# Altium schematic symbol library kmilo17pet-Maxim_Sensors.SchLib: 1172 symbols (part 57 of 61)
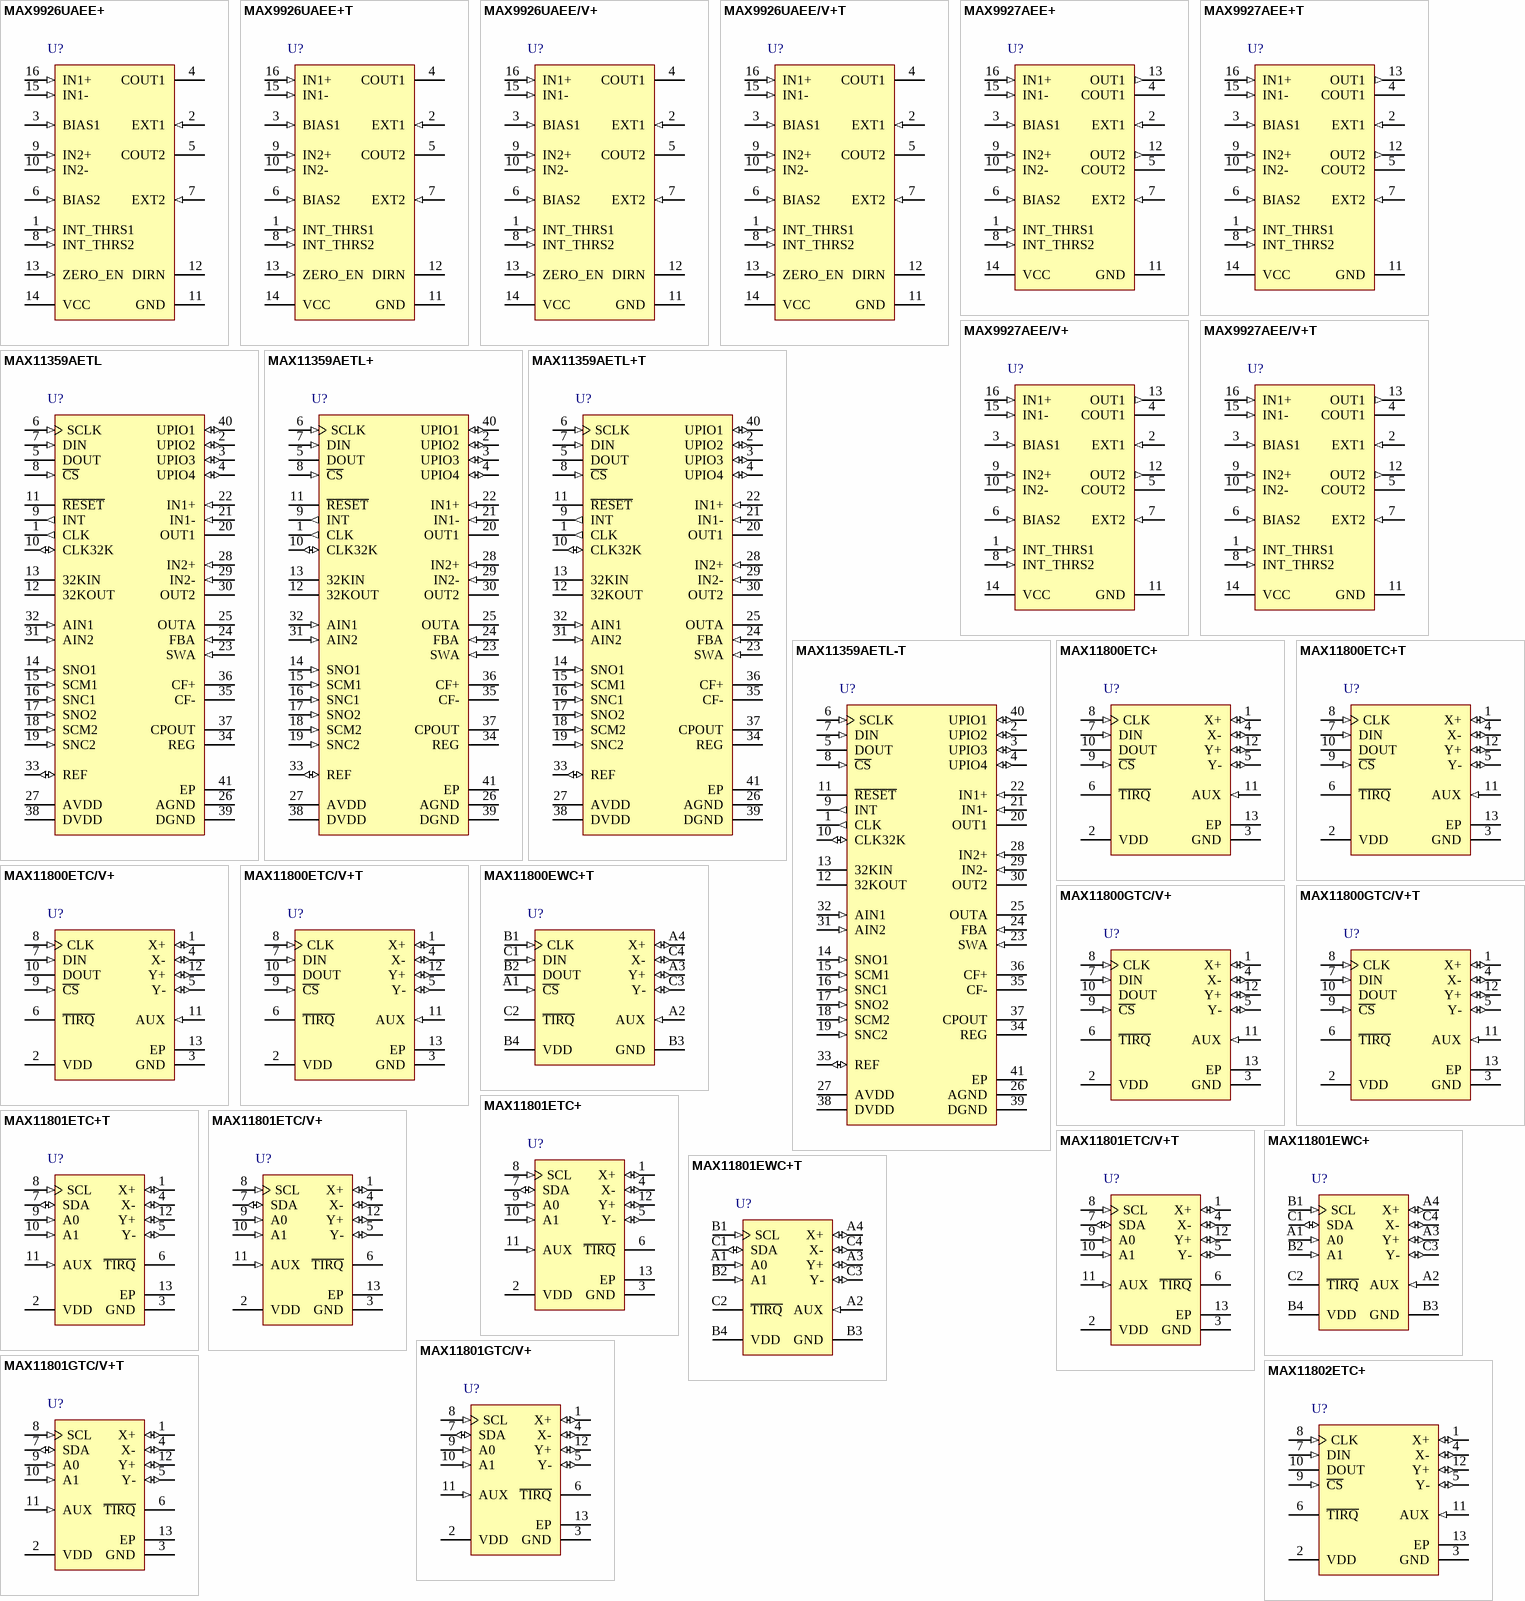
[diagram p89: symbols MAX9926UAEE+ to MAX11802ETC+]

## MAX11359AETL+T
designator U?
16-Bit Data-Acquisition System with ADC, DACs, UPIOs, RTC, Voltage Monitors, and Temp Sensor, with 10-bit DAC, 16-bit ADC, -40 to 85 degC, 40-Pin QFN (T4066+5), Pb-Free, Tape and Reel; Generic Part Number: MAX11359A; PartNumber: MAX11359AETL+T; Calibration Method: External microcontroller; Interface: SPI; Output Type: Digital; DatasheetVersion: Rev. 1; PackageVersion: Rev. M, 03/2012; PackageReference: T4066+5; PackageDescription: 40-Pin Thin Quad Flatpack, No Leads, Body 6 x 6 mm, Pitch 0.5 mm; Supplier 1: Digi-Key; Supplier Part Number 1: MAX11359AETL+T-ND; Supplier 2: Mouser; Supplier Part Number 2: 700-MAX11359AETL+T; DACs/ADCs: 10-bit DAC, 16-bit ADC; Features: 2 Op Amps, Analog Switches ,Charge Pump ,RTC ,Temp. Sensor ,UPIOs ,Voltage Reference; Packing: Tape and Reel; Mounting Technology: Surface Mount; Code_JEDEC: MO-220; ComponentLink1Description: Manufacturer URL; ComponentLink1URL: http://www.maximintegrated.com/; ComponentLink2Description: Datasheet; ComponentLink2URL: http://datasheets.maximintegrated.com/en/ds/MAX11359A.pdf; ComponentLink3Description: Package Specification; ComponentLink3URL: http://pdfserv.maximintegrated.com/package_dwgs/21-0141.PDF
footprint MAXM-T4066+5_N (QFN, 40-Leads, Body 6x6mm, Pitch 0.5mm, Thermal Pad 4.1x4.1mm, IPC Medium Density)
footprint MAXM-T4066+5_L (QFN, 40-Leads, Body 6x6mm, Pitch 0.5mm, Thermal Pad 4.1x4.1mm, IPC High Density)
footprint MAXM-T4066+5_M (QFN, 40-Leads, Body 6x6mm, Pitch 0.5mm, Thermal Pad 4.1x4.1mm, IPC Low Density)
pins: 1 CLK (out) "Clock Output. Default is 2.457MHz output clock for uC.", 2 UPIO2 (io) "User-Programmable Input/Output 2. See the UPIO2_CTRL Register section for functionality.", 3 UPIO3 (io) "User-Programmable Input/Output 3. See the UPIO3_CTRL Register section for functionality.", 4 UPIO4 (io) "User-Programmable Input/Output 4. See the UPIO4_CTRL Register section for functionality.", 5 DOUT (hiz) "Serial-Data Output. Data is clocked out on SCLK’s falling edge. High impedance when C\S\ is high. When UPIO/SPI passthrough mode is enabled, DOUT mirrors the state of UPIO1.", 6 SCLK (in) "Serial-Clock Input. Clocks data in and out of the serial interface.", 7 DIN (in) "Serial-Data Input. Data is clocked in on SCLK’s rising edge.", 8 ~{CS} (in) "Active-Low Chip-Select Input. Data is not clocked into DIN unless C\S\ is low. When C\S\ is high, DOUT is high impedance. High impedance when C\S\ is high. When UPIO/SPI passthrough mode is enabled, DOUT mirrors the state of (See Datasheet)", 9 INT (out) "Programmable Active-High/Low Interrupt Output. ADC, UPIO wake-up, alarm, and voltage-monitor events.", 10 CLK32K (io) "32kHz Clock Input/Output. Outputs 32kHz clock for uC. Can be programmed as an input by enabling the IO32E bit to accept an external 32kHz input clock. The RTC, PWM, and watchdog timer always use the internal 32kHz clock (See Datasheet)", 11 ~{RESET} (oc) "Active-Low Open-Drain R\e\s\e\t\ Output. Remains low while DVDD is below the 1.8V voltage threshold, and stays low for a timeout period (tDSLP) after DVDD rises above the 1.8V threshold. R\E\S\E\T\ also pulses low when the (See Datasheet)", 12 32KOUT "32kHz Crystal Output. Connect external 32kHz watch crystal between 32KIN and 32KOUT.", 13 32KIN "32kHz Crystal Input. Connect external 32kHz watch crystal between 32KIN and 32KOUT or drive with CMOS level as shown in Figure 25.", 14 SNO1 (in) "Analog Switch 1 Normally Open Terminal. Analog input to mux.", 15 SCM1 (in) "Analog Switch 1 Common Terminal. Analog input to mux.", 16 SNC1 (in) "Analog Switch 1 Normally Closed Terminal. Analog input to mux (open on POR).", 17 SNO2 (in) "Analog Switch 2 Normally Open Terminal. Analog input to mux.", 18 SCM2 (in) "Analog Switch 2 Common Terminal. Analog input to mux (open on POR).", 19 SNC2 (in) "Analog Switch 2 Normally Closed Terminal. Analog input to mux.", 20 OUT1 (hiz) "Amplifier 1 Output. Analog input to mux.", 21 IN1- (in) "Amplifier 1 Inverting Input. Analog input to mux.", 22 IN1+ (in) "Amplifier 1 Noninverting Input", 23 SWA (in) "DACA SPST Shunt Switch Input. Connects to OUTA through a SPST switch.", 24 FBA (in) "DACA Force-Sense Feedback Input. Analog input to mux.", 25 OUTA (hiz) "DACA Force-Sense Output. Analog input to mux.", 26 AGND (power) "Analog Ground", 27 AVDD (power) "Analog Supply Voltage. Also ADC reference voltage during AVDD measurement. Bypass to AGND with 10uF and 0.1uF capacitors in parallel as close to the pin as possible.", 28 IN2+ (in) "Amplifier 2 Noninverting Input", 29 IN2- (in) "Amplifier 2 Inverting Input. Analog input to mux.", 30 OUT2 (hiz) "Amplifier 2 Output. Analog input to mux.", 31 AIN2 (in) "Analog Input 2. Analog input to mux. Inputs have internal programmable current source for external temperature measurement.", 32 AIN1 (in) "Analog Input 1. Analog input to mux. Inputs have internal programmable current source for external temperature measurement.", 33 REF (io) "Reference Input/Output. Output of the reference buffer amplifier or external reference input. Disabled at power-up to allow external reference. Reference voltage for ADC and DAC.", 34 REG (power) "Linear Voltage-Regulator Output. Charge-pump-doubler input voltage. Bypass REG with a 10uF capacitor to DGND for charge-pump regulation.", 35 CF- "Charge-Pump Flying Capacitor Terminal. Connect an external 10uF (typ) capacitor between CF+ and CF- .", 36 CF+ "Charge-Pump Flying Capacitor Terminal. Connect an external 10uF (typ) capacitor between CF+ and CF- .", 37 CPOUT (power) "Charge-Pump Output. Connect an external 10uF (typ) reservoir capacitor between CPOUT and DGND . There is a low threshold diode between DVDD and CPOUT. When the charge pump is disabled , CPOUT is pulled up within 300mV (typ) (See Datasheet)", 38 DVDD (power) "Digital Supply Voltage. Bypass to DGND with 10uF and 0.1uF capacitors in parallel as close to the pin as possible.", 39 DGND (power) "Digital Ground. Also ground for cascaded linear voltage regulator and charge-pump doubler.", 40 UPIO1 (io) "User-Programmable Input/Output 1. See the UPIO1_CTRL Register for functionality.", 41 EP (power) "Exposed  Pad . Leave unconnected  or  connect to AGND ."

## MAX11359AETL-T
designator U?
16-Bit Data-Acquisition System with ADC, DACs, UPIOs, RTC, Voltage Monitors, and Temp Sensor, with 10-bit DAC, 16-bit ADC, -40 to 85 degC, 40-Pin QFN (T4066-5), Tape and Reel; Generic Part Number: MAX11359A; PartNumber: MAX11359AETL-T; Calibration Method: External microcontroller; Interface: SPI; Output Type: Digital; DatasheetVersion: Rev. 1; PackageVersion: Rev. M, 03/2012; PackageReference: T4066-5; PackageDescription: 40-Pin Thin Quad Flatpack, No Leads, Body 6 x 6 mm, Pitch 0.5 mm; Supplier 1: Mouser; Supplier Part Number 1: N/A; DACs/ADCs: 10-bit DAC, 16-bit ADC; Features: 2 Op Amps, Analog Switches ,Charge Pump ,RTC ,Temp. Sensor ,UPIOs ,Voltage Reference; Packing: Tape and Reel; Mounting Technology: Surface Mount; Code_JEDEC: MO-220; ComponentLink1Description: Manufacturer URL; ComponentLink1URL: http://www.maximintegrated.com/; ComponentLink2Description: Datasheet; ComponentLink2URL: http://datasheets.maximintegrated.com/en/ds/MAX11359A.pdf; ComponentLink3Description: Package Specification; ComponentLink3URL: http://pdfserv.maximintegrated.com/package_dwgs/21-0141.PDF
footprint MAXM-T4066-5_N (QFN, 40-Leads, Body 6x6mm, Pitch 0.5mm, Thermal Pad 4.1x4.1 mm, IPC Medium Density)
footprint MAXM-T4066-5_L (QFN, 40-Leads, Body 6x6mm, Pitch 0.5mm, Thermal Pad 4.1x4.1 mm, IPC High Density)
footprint MAXM-T4066-5_M (QFN, 40-Leads, Body 6x6mm, Pitch 0.5mm, Thermal Pad 4.1x4.1 mm, IPC Low Density)
pins: 1 CLK (out) "Clock Output. Default is 2.457MHz output clock for uC.", 2 UPIO2 (io) "User-Programmable Input/Output 2. See the UPIO2_CTRL Register section for functionality.", 3 UPIO3 (io) "User-Programmable Input/Output 3. See the UPIO3_CTRL Register section for functionality.", 4 UPIO4 (io) "User-Programmable Input/Output 4. See the UPIO4_CTRL Register section for functionality.", 5 DOUT (hiz) "Serial-Data Output. Data is clocked out on SCLK’s falling edge. High impedance when C\S\ is high. When UPIO/SPI passthrough mode is enabled, DOUT mirrors the state of UPIO1.", 6 SCLK (in) "Serial-Clock Input. Clocks data in and out of the serial interface.", 7 DIN (in) "Serial-Data Input. Data is clocked in on SCLK’s rising edge.", 8 ~{CS} (in) "Active-Low Chip-Select Input. Data is not clocked into DIN unless C\S\ is low. When C\S\ is high, DOUT is high impedance. High impedance when C\S\ is high. When UPIO/SPI passthrough mode is enabled, DOUT mirrors the state of (See Datasheet)", 9 INT (out) "Programmable Active-High/Low Interrupt Output. ADC, UPIO wake-up, alarm, and voltage-monitor events.", 10 CLK32K (io) "32kHz Clock Input/Output. Outputs 32kHz clock for uC. Can be programmed as an input by enabling the IO32E bit to accept an external 32kHz input clock. The RTC, PWM, and watchdog timer always use the internal 32kHz clock (See Datasheet)", 11 ~{RESET} (oc) "Active-Low Open-Drain R\e\s\e\t\ Output. Remains low while DVDD is below the 1.8V voltage threshold, and stays low for a timeout period (tDSLP) after DVDD rises above the 1.8V threshold. R\E\S\E\T\ also pulses low when the (See Datasheet)", 12 32KOUT "32kHz Crystal Output. Connect external 32kHz watch crystal between 32KIN and 32KOUT.", 13 32KIN "32kHz Crystal Input. Connect external 32kHz watch crystal between 32KIN and 32KOUT or drive with CMOS level as shown in Figure 25.", 14 SNO1 (in) "Analog Switch 1 Normally Open Terminal. Analog input to mux.", 15 SCM1 (in) "Analog Switch 1 Common Terminal. Analog input to mux.", 16 SNC1 (in) "Analog Switch 1 Normally Closed Terminal. Analog input to mux (open on POR).", 17 SNO2 (in) "Analog Switch 2 Normally Open Terminal. Analog input to mux.", 18 SCM2 (in) "Analog Switch 2 Common Terminal. Analog input to mux (open on POR).", 19 SNC2 (in) "Analog Switch 2 Normally Closed Terminal. Analog input to mux.", 20 OUT1 (hiz) "Amplifier 1 Output. Analog input to mux.", 21 IN1- (in) "Amplifier 1 Inverting Input. Analog input to mux.", 22 IN1+ (in) "Amplifier 1 Noninverting Input", 23 SWA (in) "DACA SPST Shunt Switch Input. Connects to OUTA through a SPST switch.", 24 FBA (in) "DACA Force-Sense Feedback Input. Analog input to mux.", 25 OUTA (hiz) "DACA Force-Sense Output. Analog input to mux.", 26 AGND (power) "Analog Ground", 27 AVDD (power) "Analog Supply Voltage. Also ADC reference voltage during AVDD measurement. Bypass to AGND with 10uF and 0.1uF capacitors in parallel as close to the pin as possible.", 28 IN2+ (in) "Amplifier 2 Noninverting Input", 29 IN2- (in) "Amplifier 2 Inverting Input. Analog input to mux.", 30 OUT2 (hiz) "Amplifier 2 Output. Analog input to mux.", 31 AIN2 (in) "Analog Input 2. Analog input to mux. Inputs have internal programmable current source for external temperature measurement.", 32 AIN1 (in) "Analog Input 1. Analog input to mux. Inputs have internal programmable current source for external temperature measurement.", 33 REF (io) "Reference Input/Output. Output of the reference buffer amplifier or external reference input. Disabled at power-up to allow external reference. Reference voltage for ADC and DAC.", 34 REG (power) "Linear Voltage-Regulator Output. Charge-pump-doubler input voltage. Bypass REG with a 10uF capacitor to DGND for charge-pump regulation.", 35 CF- "Charge-Pump Flying Capacitor Terminal. Connect an external 10uF (typ) capacitor between CF+ and CF- .", 36 CF+ "Charge-Pump Flying Capacitor Terminal. Connect an external 10uF (typ) capacitor between CF+ and CF- .", 37 CPOUT (power) "Charge-Pump Output. Connect an external 10uF (typ) reservoir capacitor between CPOUT and DGND . There is a low threshold diode between DVDD and CPOUT. When the charge pump is disabled , CPOUT is pulled up within 300mV (typ) (See Datasheet)", 38 DVDD (power) "Digital Supply Voltage. Bypass to DGND with 10uF and 0.1uF capacitors in parallel as close to the pin as possible.", 39 DGND (power) "Digital Ground. Also ground for cascaded linear voltage regulator and charge-pump doubler.", 40 UPIO1 (io) "User-Programmable Input/Output 1. See the UPIO1_CTRL Register for functionality.", 41 EP (power) "Exposed  Pad . Leave unconnected  or  connect to AGND ."

## MAX11800ETC+
designator U?
4 Channels, Ultra-Small, Low-Power, 4-Wire Touch-Sensor Controller with SPI Interface, -40 to 85 degC, 12-Pin QFN (T1244+4), Pb-Free; Generic Part Number: MAX11800; PartNumber: MAX11800ETC+; Channels: 4; Controller Type: Resistive; EV Kit: Yes; DatasheetVersion: Rev. 3; PackageVersion: Rev. L, 04/2012; PackageReference: T1244+4; PackageDescription: 12-Pin Thin Quad Flatpack, No Leads, Body 4 x 4 mm, Pitch 0.8 mm; Supplier 1: Digi-Key; Supplier Part Number 1: MAX11800ETC+-ND; Supplier 2: Mouser; Supplier Part Number 2: 700-MAX11800ETC+; Interface: SPI; Mounting Technology: Surface Mount; Code_JEDEC: MO-220; ComponentLink1Description: Manufacturer URL; ComponentLink1URL: http://www.maximintegrated.com/; ComponentLink2Description: Datasheet; ComponentLink2URL: http://datasheets.maximintegrated.com/en/ds/MAX11800-MAX11803.pdf; ComponentLink3Description: Package Specification; ComponentLink3URL: http://pdfserv.maximintegrated.com/package_dwgs/21-0139.PDF
footprint MAXM-T1244+4_N (QFN, 12-Leads, Body 4x4mm, Pitch 0.8mm, Thermal Pad 2.1x2.1mm, IPC Medium Density)
footprint MAXM-T1244+4_L (QFN, 12-Leads, Body 4x4mm, Pitch 0.8mm, Thermal Pad 2.1x2.1mm, IPC High Density)
footprint MAXM-T1244+4_M (QFN, 12-Leads, Body 4x4mm, Pitch 0.8mm, Thermal Pad 2.1x2.1mm, IPC Low Density)
pins: 1 X+ (io) "X+ Channel Input/Output", 2 VDD (power) "Power Supply. Bypass VDD to GND with a 1uF capacitor.", 3 GND (power) "Ground", 4 X- (io) "X- Channel Input/Output", 5 Y- (io) "Y- Channel Input/Output", 6 ~{TIRQ} (hiz) "Active-Low Touch Interrupt Output", 7 DIN (in) "SPI Serial Data Input", 8 CLK (in) "SPI Serial Data Clock Input", 9 ~{CS} (in) "SPI Chip-Select Input", 10 DOUT (hiz) "SPI Data Output", 11 AUX (in) "Auxiliary Input", 12 Y+ (io) "Y+ Channel Input/Output", 13 EP (power) "Exposed Pad (TQFN only). Connected to ground."

## MAX11800ETC+T
designator U?
4 Channels, Ultra-Small, Low-Power, 4-Wire Touch-Sensor Controller with SPI Interface, -40 to 85 degC, 12-Pin QFN (T1244+4), Pb-Free, Tape and Reel; Generic Part Number: MAX11800; PartNumber: MAX11800ETC+T; Channels: 4; Controller Type: Resistive; EV Kit: Yes; DatasheetVersion: Rev. 3; PackageVersion: Rev. L, 04/2012; PackageReference: T1244+4; PackageDescription: 12-Pin Thin Quad Flatpack, No Leads, Body 4 x 4 mm, Pitch 0.8 mm; Supplier 1: Digi-Key; Supplier Part Number 1: MAX11800ETC+T-ND; Supplier 2: Mouser; Supplier Part Number 2: 700-MAX11800ETC+T; Interface: SPI; Packing: Tape and Reel; Mounting Technology: Surface Mount; Code_JEDEC: MO-220; ComponentLink1Description: Manufacturer URL; ComponentLink1URL: http://www.maximintegrated.com/; ComponentLink2Description: Datasheet; ComponentLink2URL: http://datasheets.maximintegrated.com/en/ds/MAX11800-MAX11803.pdf; ComponentLink3Description: Package Specification; ComponentLink3URL: http://pdfserv.maximintegrated.com/package_dwgs/21-0139.PDF
footprint MAXM-T1244+4_N (QFN, 12-Leads, Body 4x4mm, Pitch 0.8mm, Thermal Pad 2.1x2.1mm, IPC Medium Density)
footprint MAXM-T1244+4_L (QFN, 12-Leads, Body 4x4mm, Pitch 0.8mm, Thermal Pad 2.1x2.1mm, IPC High Density)
footprint MAXM-T1244+4_M (QFN, 12-Leads, Body 4x4mm, Pitch 0.8mm, Thermal Pad 2.1x2.1mm, IPC Low Density)
pins: 1 X+ (io) "X+ Channel Input/Output", 2 VDD (power) "Power Supply. Bypass VDD to GND with a 1uF capacitor.", 3 GND (power) "Ground", 4 X- (io) "X- Channel Input/Output", 5 Y- (io) "Y- Channel Input/Output", 6 ~{TIRQ} (hiz) "Active-Low Touch Interrupt Output", 7 DIN (in) "SPI Serial Data Input", 8 CLK (in) "SPI Serial Data Clock Input", 9 ~{CS} (in) "SPI Chip-Select Input", 10 DOUT (hiz) "SPI Data Output", 11 AUX (in) "Auxiliary Input", 12 Y+ (io) "Y+ Channel Input/Output", 13 EP (power) "Exposed Pad (TQFN only). Connected to ground."

## MAX11800ETC/V+
designator U?
4 Channels, Ultra-Small, Low-Power, 4-Wire Touch-Sensor Controller with SPI Interface, -40 to 85 degC, 12-Pin QFN (T1244+4), Pb-Free; Generic Part Number: MAX11800; PartNumber: MAX11800ETC/V+; Channels: 4; Controller Type: Resistive; EV Kit: Yes; DatasheetVersion: Rev. 3; PackageVersion: Rev. L, 04/2012; PackageReference: T1244+4; PackageDescription: 12-Pin Thin Quad Flatpack, No Leads, Body 4 x 4 mm, Pitch 0.8 mm; Supplier 1: Digi-Key; Supplier Part Number 1: MAX11800ETC/V+-ND; Supplier 2: Mouser; Supplier Part Number 2: 700-MAX11800ETC/V+; Interface: SPI; Mounting Technology: Surface Mount; Code_JEDEC: MO-220; ComponentLink1Description: Manufacturer URL; ComponentLink1URL: http://www.maximintegrated.com/; ComponentLink2Description: Datasheet; ComponentLink2URL: http://datasheets.maximintegrated.com/en/ds/MAX11800-MAX11803.pdf; ComponentLink3Description: Package Specification; ComponentLink3URL: http://pdfserv.maximintegrated.com/package_dwgs/21-0139.PDF
footprint MAXM-T1244+4_N (QFN, 12-Leads, Body 4x4mm, Pitch 0.8mm, Thermal Pad 2.1x2.1mm, IPC Medium Density)
footprint MAXM-T1244+4_L (QFN, 12-Leads, Body 4x4mm, Pitch 0.8mm, Thermal Pad 2.1x2.1mm, IPC High Density)
footprint MAXM-T1244+4_M (QFN, 12-Leads, Body 4x4mm, Pitch 0.8mm, Thermal Pad 2.1x2.1mm, IPC Low Density)
pins: 1 X+ (io) "X+ Channel Input/Output", 2 VDD (power) "Power Supply. Bypass VDD to GND with a 1uF capacitor.", 3 GND (power) "Ground", 4 X- (io) "X- Channel Input/Output", 5 Y- (io) "Y- Channel Input/Output", 6 ~{TIRQ} (hiz) "Active-Low Touch Interrupt Output", 7 DIN (in) "SPI Serial Data Input", 8 CLK (in) "SPI Serial Data Clock Input", 9 ~{CS} (in) "SPI Chip-Select Input", 10 DOUT (hiz) "SPI Data Output", 11 AUX (in) "Auxiliary Input", 12 Y+ (io) "Y+ Channel Input/Output", 13 EP (power) "Exposed Pad (TQFN only). Connected to ground."

## MAX11800ETC/V+T
designator U?
4 Channels, Ultra-Small, Low-Power, 4-Wire Touch-Sensor Controller with SPI Interface, -40 to 85 degC, 12-Pin QFN (T1244+4), Pb-Free, Tape and Reel; Generic Part Number: MAX11800; PartNumber: MAX11800ETC/V+T; Channels: 4; Controller Type: Resistive; EV Kit: Yes; DatasheetVersion: Rev. 3; PackageVersion: Rev. L, 04/2012; PackageReference: T1244+4; PackageDescription: 12-Pin Thin Quad Flatpack, No Leads, Body 4 x 4 mm, Pitch 0.8 mm; Supplier 1: Digi-Key; Supplier Part Number 1: MAX11800ETC/V+T-ND; Supplier 2: Mouser; Supplier Part Number 2: 700-MAX11800ETC/V+T; Interface: SPI; Packing: Tape and Reel; Mounting Technology: Surface Mount; Code_JEDEC: MO-220; ComponentLink1Description: Manufacturer URL; ComponentLink1URL: http://www.maximintegrated.com/; ComponentLink2Description: Datasheet; ComponentLink2URL: http://datasheets.maximintegrated.com/en/ds/MAX11800-MAX11803.pdf; ComponentLink3Description: Package Specification; ComponentLink3URL: http://pdfserv.maximintegrated.com/package_dwgs/21-0139.PDF
footprint MAXM-T1244+4_N (QFN, 12-Leads, Body 4x4mm, Pitch 0.8mm, Thermal Pad 2.1x2.1mm, IPC Medium Density)
footprint MAXM-T1244+4_L (QFN, 12-Leads, Body 4x4mm, Pitch 0.8mm, Thermal Pad 2.1x2.1mm, IPC High Density)
footprint MAXM-T1244+4_M (QFN, 12-Leads, Body 4x4mm, Pitch 0.8mm, Thermal Pad 2.1x2.1mm, IPC Low Density)
pins: 1 X+ (io) "X+ Channel Input/Output", 2 VDD (power) "Power Supply. Bypass VDD to GND with a 1uF capacitor.", 3 GND (power) "Ground", 4 X- (io) "X- Channel Input/Output", 5 Y- (io) "Y- Channel Input/Output", 6 ~{TIRQ} (hiz) "Active-Low Touch Interrupt Output", 7 DIN (in) "SPI Serial Data Input", 8 CLK (in) "SPI Serial Data Clock Input", 9 ~{CS} (in) "SPI Chip-Select Input", 10 DOUT (hiz) "SPI Data Output", 11 AUX (in) "Auxiliary Input", 12 Y+ (io) "Y+ Channel Input/Output", 13 EP (power) "Exposed Pad (TQFN only). Connected to ground."

## MAX11800EWC+T
designator U?
4 Channels, Ultra-Small, Low-Power, 4-Wire Touch-Sensor Controller with SPI Interface, -40 to 85 degC, 12-Pin BGA (W121A2+1), Pb-Free, Tape and Reel; Generic Part Number: MAX11800; PartNumber: MAX11800EWC+T; Channels: 4; Controller Type: Resistive; EV Kit: Yes; DatasheetVersion: Rev. 3; PackageVersion: Rev. G, 02/2010; PackageReference: W121A2+1; PackageDescription: 12-Pin Wafer-Level Package, Full Array, Body 1.555 x 2.135 mm, Pitch 0.5 mm; Supplier 1: Digi-Key; Supplier Part Number 1: MAX11800EWC+TTR-ND; Supplier 2: Digi-Key; Supplier Part Number 2: MAX11800EWC+TCT-ND; Supplier 3: Digi-Key; Supplier Part Number 3: MAX11800EWC+TDKR-ND; Supplier 4: Mouser; Supplier Part Number 4: 700-MAX11800EWC+T; Interface: SPI; Packing: Tape and Reel; Mounting Technology: Surface Mount; ComponentLink1Description: Manufacturer URL; ComponentLink1URL: http://www.maximintegrated.com/; ComponentLink2Description: Datasheet; ComponentLink2URL: http://datasheets.maximintegrated.com/en/ds/MAX11800-MAX11803.pdf; ComponentLink3Description: Package Specification; ComponentLink3URL: http://pdfserv.maximintegrated.com/package_dwgs/21-0009.PDF
footprint MAXM-W121A2+1 (BGA, 12-Balls, Body 2.135x1.555mm, Pitch 0.5mm)
pins: A1 ~{CS} (in) "SPI Chip-Select Input", A2 AUX (in) "Auxiliary Input", A3 Y+ (io) "Y+ Channel Input/Output", A4 X+ (io) "X+ Channel Input/Output", B1 CLK (in) "SPI Serial Data Clock Input", B2 DOUT (hiz) "SPI Data Output", B3 GND (power) "Ground", B4 VDD (power) "Power Supply. Bypass VDD to GND with a 1uF capacitor.", C1 DIN (in) "SPI Serial Data Input", C2 ~{TIRQ} (hiz) "Active-Low Touch Interrupt Output", C3 Y- (io) "Y- Channel Input/Output", C4 X- (io) "X- Channel Input/Output"

## MAX11800GTC/V+
designator U?
4 Channels, Ultra-Small, Low-Power, 4-Wire Touch-Sensor Controller with SPI Interface, -40 to 105 degC, 12-Pin QFN (T1244+4), Pb-Free; Generic Part Number: MAX11800; PartNumber: MAX11800GTC/V+; Channels: 4; Controller Type: Resistive; EV Kit: Yes; DatasheetVersion: Rev. 3; PackageVersion: Rev. L, 04/2012; PackageReference: T1244+4; PackageDescription: 12-Pin Thin Quad Flatpack, No Leads, Body 4 x 4 mm, Pitch 0.8 mm; Supplier 1: Digi-Key; Supplier Part Number 1: MAX11800GTC/V+-ND; Supplier 2: Mouser; Supplier Part Number 2: 700-MAX11800GTC/V+; Interface: SPI; Mounting Technology: Surface Mount; Code_JEDEC: MO-220; ComponentLink1Description: Manufacturer URL; ComponentLink1URL: http://www.maximintegrated.com/; ComponentLink2Description: Datasheet; ComponentLink2URL: http://datasheets.maximintegrated.com/en/ds/MAX11800-MAX11803.pdf; ComponentLink3Description: Package Specification; ComponentLink3URL: http://pdfserv.maximintegrated.com/package_dwgs/21-0139.PDF
footprint MAXM-T1244+4_N (QFN, 12-Leads, Body 4x4mm, Pitch 0.8mm, Thermal Pad 2.1x2.1mm, IPC Medium Density)
footprint MAXM-T1244+4_L (QFN, 12-Leads, Body 4x4mm, Pitch 0.8mm, Thermal Pad 2.1x2.1mm, IPC High Density)
footprint MAXM-T1244+4_M (QFN, 12-Leads, Body 4x4mm, Pitch 0.8mm, Thermal Pad 2.1x2.1mm, IPC Low Density)
pins: 1 X+ (io) "X+ Channel Input/Output", 2 VDD (power) "Power Supply. Bypass VDD to GND with a 1uF capacitor.", 3 GND (power) "Ground", 4 X- (io) "X- Channel Input/Output", 5 Y- (io) "Y- Channel Input/Output", 6 ~{TIRQ} (hiz) "Active-Low Touch Interrupt Output", 7 DIN (in) "SPI Serial Data Input", 8 CLK (in) "SPI Serial Data Clock Input", 9 ~{CS} (in) "SPI Chip-Select Input", 10 DOUT (hiz) "SPI Data Output", 11 AUX (in) "Auxiliary Input", 12 Y+ (io) "Y+ Channel Input/Output", 13 EP (power) "Exposed Pad (TQFN only). Connected to ground."

## MAX11800GTC/V+T
designator U?
4 Channels, Ultra-Small, Low-Power, 4-Wire Touch-Sensor Controller with SPI Interface, -40 to 105 degC, 12-Pin QFN (T1244+4), Pb-Free, Tape and Reel; Generic Part Number: MAX11800; PartNumber: MAX11800GTC/V+T; Channels: 4; Controller Type: Resistive; EV Kit: Yes; DatasheetVersion: Rev. 3; PackageVersion: Rev. L, 04/2012; PackageReference: T1244+4; PackageDescription: 12-Pin Thin Quad Flatpack, No Leads, Body 4 x 4 mm, Pitch 0.8 mm; Supplier 1: Digi-Key; Supplier Part Number 1: MAX11800GTC/V+T-ND; Supplier 2: Mouser; Supplier Part Number 2: 700-MAX11800GTC/V+T; Interface: SPI; Packing: Tape and Reel; Mounting Technology: Surface Mount; Code_JEDEC: MO-220; ComponentLink1Description: Manufacturer URL; ComponentLink1URL: http://www.maximintegrated.com/; ComponentLink2Description: Datasheet; ComponentLink2URL: http://datasheets.maximintegrated.com/en/ds/MAX11800-MAX11803.pdf; ComponentLink3Description: Package Specification; ComponentLink3URL: http://pdfserv.maximintegrated.com/package_dwgs/21-0139.PDF
footprint MAXM-T1244+4_N (QFN, 12-Leads, Body 4x4mm, Pitch 0.8mm, Thermal Pad 2.1x2.1mm, IPC Medium Density)
footprint MAXM-T1244+4_L (QFN, 12-Leads, Body 4x4mm, Pitch 0.8mm, Thermal Pad 2.1x2.1mm, IPC High Density)
footprint MAXM-T1244+4_M (QFN, 12-Leads, Body 4x4mm, Pitch 0.8mm, Thermal Pad 2.1x2.1mm, IPC Low Density)
pins: 1 X+ (io) "X+ Channel Input/Output", 2 VDD (power) "Power Supply. Bypass VDD to GND with a 1uF capacitor.", 3 GND (power) "Ground", 4 X- (io) "X- Channel Input/Output", 5 Y- (io) "Y- Channel Input/Output", 6 ~{TIRQ} (hiz) "Active-Low Touch Interrupt Output", 7 DIN (in) "SPI Serial Data Input", 8 CLK (in) "SPI Serial Data Clock Input", 9 ~{CS} (in) "SPI Chip-Select Input", 10 DOUT (hiz) "SPI Data Output", 11 AUX (in) "Auxiliary Input", 12 Y+ (io) "Y+ Channel Input/Output", 13 EP (power) "Exposed Pad (TQFN only). Connected to ground."

## MAX11801ETC+
designator U?
4 Channels, Ultra-Small, Low-Power, 4-Wire Touch-Sensor Controller with I2C Interface, -40 to 85 degC, 12-Pin QFN (T1244+4), Pb-Free; Generic Part Number: MAX11801; PartNumber: MAX11801ETC+; Channels: 4; Controller Type: Resistive; EV Kit: Yes; DatasheetVersion: Rev. 3; PackageVersion: Rev. L, 04/2012; PackageReference: T1244+4; PackageDescription: 12-Pin Thin Quad Flatpack, No Leads, Body 4 x 4 mm, Pitch 0.8 mm; Supplier 1: Digi-Key; Supplier Part Number 1: MAX11801ETC+-ND; Supplier 2: Farnell; Supplier Part Number 2: 2071376; Supplier 3: Mouser; Supplier Part Number 3: 700-MAX11801ETC+; Interface: I2C; Mounting Technology: Surface Mount; Code_JEDEC: MO-220; ComponentLink1Description: Manufacturer URL; ComponentLink1URL: http://www.maximintegrated.com/; ComponentLink2Description: Datasheet; ComponentLink2URL: http://datasheets.maximintegrated.com/en/ds/MAX11800-MAX11803.pdf; ComponentLink3Description: Package Specification; ComponentLink3URL: http://pdfserv.maximintegrated.com/package_dwgs/21-0139.PDF
footprint MAXM-T1244+4_N (QFN, 12-Leads, Body 4x4mm, Pitch 0.8mm, Thermal Pad 2.1x2.1mm, IPC Medium Density)
footprint MAXM-T1244+4_L (QFN, 12-Leads, Body 4x4mm, Pitch 0.8mm, Thermal Pad 2.1x2.1mm, IPC High Density)
footprint MAXM-T1244+4_M (QFN, 12-Leads, Body 4x4mm, Pitch 0.8mm, Thermal Pad 2.1x2.1mm, IPC Low Density)
pins: 1 X+ (io) "X+ Channel Input/Output", 2 VDD (power) "Power Supply. Bypass VDD to GND with a 1uF capacitor.", 3 GND (power) "Ground", 4 X- (io) "X- Channel Input/Output", 5 Y- (io) "Y- Channel Input/Output", 6 ~{TIRQ} (hiz) "Active-Low Touch Interrupt Output", 7 SDA (io) "I2C Serial Data Bus Input/Output", 8 SCL (in) "I2C Serial Data Clock Input", 9 A0 (in) "I2C Address Input Bit 0", 10 A1 (in) "I2C Address Input Bit 1", 11 AUX (in) "Auxiliary Input", 12 Y+ (io) "Y+ Channel Input/Output", 13 EP (power) "Exposed Pad (TQFN only). Connected to ground."

## MAX11801ETC+T
designator U?
4 Channels, Ultra-Small, Low-Power, 4-Wire Touch-Sensor Controller with I2C Interface, -40 to 85 degC, 12-Pin QFN (T1244+4), Pb-Free, Tape and Reel; Generic Part Number: MAX11801; PartNumber: MAX11801ETC+T; Channels: 4; Controller Type: Resistive; EV Kit: Yes; DatasheetVersion: Rev. 3; PackageVersion: Rev. L, 04/2012; PackageReference: T1244+4; PackageDescription: 12-Pin Thin Quad Flatpack, No Leads, Body 4 x 4 mm, Pitch 0.8 mm; Supplier 1: Digi-Key; Supplier Part Number 1: MAX11801ETC+T-ND; Supplier 2: Mouser; Supplier Part Number 2: 700-MAX11801ETC+T; Interface: I2C; Packing: Tape and Reel; Mounting Technology: Surface Mount; Code_JEDEC: MO-220; ComponentLink1Description: Manufacturer URL; ComponentLink1URL: http://www.maximintegrated.com/; ComponentLink2Description: Datasheet; ComponentLink2URL: http://datasheets.maximintegrated.com/en/ds/MAX11800-MAX11803.pdf; ComponentLink3Description: Package Specification; ComponentLink3URL: http://pdfserv.maximintegrated.com/package_dwgs/21-0139.PDF
footprint MAXM-T1244+4_N (QFN, 12-Leads, Body 4x4mm, Pitch 0.8mm, Thermal Pad 2.1x2.1mm, IPC Medium Density)
footprint MAXM-T1244+4_L (QFN, 12-Leads, Body 4x4mm, Pitch 0.8mm, Thermal Pad 2.1x2.1mm, IPC High Density)
footprint MAXM-T1244+4_M (QFN, 12-Leads, Body 4x4mm, Pitch 0.8mm, Thermal Pad 2.1x2.1mm, IPC Low Density)
pins: 1 X+ (io) "X+ Channel Input/Output", 2 VDD (power) "Power Supply. Bypass VDD to GND with a 1uF capacitor.", 3 GND (power) "Ground", 4 X- (io) "X- Channel Input/Output", 5 Y- (io) "Y- Channel Input/Output", 6 ~{TIRQ} (hiz) "Active-Low Touch Interrupt Output", 7 SDA (io) "I2C Serial Data Bus Input/Output", 8 SCL (in) "I2C Serial Data Clock Input", 9 A0 (in) "I2C Address Input Bit 0", 10 A1 (in) "I2C Address Input Bit 1", 11 AUX (in) "Auxiliary Input", 12 Y+ (io) "Y+ Channel Input/Output", 13 EP (power) "Exposed Pad (TQFN only). Connected to ground."

## MAX11801ETC/V+
designator U?
4 Channels, Ultra-Small, Low-Power, 4-Wire Touch-Sensor Controller with I2C Interface, -40 to 85 degC, 12-Pin QFN (T1244+4), Pb-Free; Generic Part Number: MAX11801; PartNumber: MAX11801ETC/V+; Channels: 4; Controller Type: Resistive; EV Kit: Yes; DatasheetVersion: Rev. 3; PackageVersion: Rev. L, 04/2012; PackageReference: T1244+4; PackageDescription: 12-Pin Thin Quad Flatpack, No Leads, Body 4 x 4 mm, Pitch 0.8 mm; Supplier 1: Digi-Key; Supplier Part Number 1: MAX11801ETC/V+-ND; Supplier 2: Mouser; Supplier Part Number 2: 700-MAX11801ETC/V+; Interface: I2C; Mounting Technology: Surface Mount; Code_JEDEC: MO-220; ComponentLink1Description: Manufacturer URL; ComponentLink1URL: http://www.maximintegrated.com/; ComponentLink2Description: Datasheet; ComponentLink2URL: http://datasheets.maximintegrated.com/en/ds/MAX11800-MAX11803.pdf; ComponentLink3Description: Package Specification; ComponentLink3URL: http://pdfserv.maximintegrated.com/package_dwgs/21-0139.PDF
footprint MAXM-T1244+4_N (QFN, 12-Leads, Body 4x4mm, Pitch 0.8mm, Thermal Pad 2.1x2.1mm, IPC Medium Density)
footprint MAXM-T1244+4_L (QFN, 12-Leads, Body 4x4mm, Pitch 0.8mm, Thermal Pad 2.1x2.1mm, IPC High Density)
footprint MAXM-T1244+4_M (QFN, 12-Leads, Body 4x4mm, Pitch 0.8mm, Thermal Pad 2.1x2.1mm, IPC Low Density)
pins: 1 X+ (io) "X+ Channel Input/Output", 2 VDD (power) "Power Supply. Bypass VDD to GND with a 1uF capacitor.", 3 GND (power) "Ground", 4 X- (io) "X- Channel Input/Output", 5 Y- (io) "Y- Channel Input/Output", 6 ~{TIRQ} (hiz) "Active-Low Touch Interrupt Output", 7 SDA (io) "I2C Serial Data Bus Input/Output", 8 SCL (in) "I2C Serial Data Clock Input", 9 A0 (in) "I2C Address Input Bit 0", 10 A1 (in) "I2C Address Input Bit 1", 11 AUX (in) "Auxiliary Input", 12 Y+ (io) "Y+ Channel Input/Output", 13 EP (power) "Exposed Pad (TQFN only). Connected to ground."

## MAX11801ETC/V+T
designator U?
4 Channels, Ultra-Small, Low-Power, 4-Wire Touch-Sensor Controller with I2C Interface, -40 to 85 degC, 12-Pin QFN (T1244+4), Pb-Free, Tape and Reel; Generic Part Number: MAX11801; PartNumber: MAX11801ETC/V+T; Channels: 4; Controller Type: Resistive; EV Kit: Yes; DatasheetVersion: Rev. 3; PackageVersion: Rev. L, 04/2012; PackageReference: T1244+4; PackageDescription: 12-Pin Thin Quad Flatpack, No Leads, Body 4 x 4 mm, Pitch 0.8 mm; Supplier 1: Digi-Key; Supplier Part Number 1: MAX11801ETC/V+T-ND; Supplier 2: Mouser; Supplier Part Number 2: 700-MAX11801ETC/V+T; Interface: I2C; Packing: Tape and Reel; Mounting Technology: Surface Mount; Code_JEDEC: MO-220; ComponentLink1Description: Manufacturer URL; ComponentLink1URL: http://www.maximintegrated.com/; ComponentLink2Description: Datasheet; ComponentLink2URL: http://datasheets.maximintegrated.com/en/ds/MAX11800-MAX11803.pdf; ComponentLink3Description: Package Specification; ComponentLink3URL: http://pdfserv.maximintegrated.com/package_dwgs/21-0139.PDF
footprint MAXM-T1244+4_N (QFN, 12-Leads, Body 4x4mm, Pitch 0.8mm, Thermal Pad 2.1x2.1mm, IPC Medium Density)
footprint MAXM-T1244+4_L (QFN, 12-Leads, Body 4x4mm, Pitch 0.8mm, Thermal Pad 2.1x2.1mm, IPC High Density)
footprint MAXM-T1244+4_M (QFN, 12-Leads, Body 4x4mm, Pitch 0.8mm, Thermal Pad 2.1x2.1mm, IPC Low Density)
pins: 1 X+ (io) "X+ Channel Input/Output", 2 VDD (power) "Power Supply. Bypass VDD to GND with a 1uF capacitor.", 3 GND (power) "Ground", 4 X- (io) "X- Channel Input/Output", 5 Y- (io) "Y- Channel Input/Output", 6 ~{TIRQ} (hiz) "Active-Low Touch Interrupt Output", 7 SDA (io) "I2C Serial Data Bus Input/Output", 8 SCL (in) "I2C Serial Data Clock Input", 9 A0 (in) "I2C Address Input Bit 0", 10 A1 (in) "I2C Address Input Bit 1", 11 AUX (in) "Auxiliary Input", 12 Y+ (io) "Y+ Channel Input/Output", 13 EP (power) "Exposed Pad (TQFN only). Connected to ground."

## MAX11801EWC+
designator U?
4 Channels, Ultra-Small, Low-Power, 4-Wire Touch-Sensor Controller with I2C Interface, -40 to 85 degC, 12-Pin BGA (W121A2+1), Pb-Free; Generic Part Number: MAX11801; PartNumber: MAX11801EWC+; Channels: 4; Controller Type: Resistive; EV Kit: Yes; DatasheetVersion: Rev. 3; PackageVersion: Rev. G, 02/2010; PackageReference: W121A2+1; PackageDescription: 12-Pin Wafer-Level Package, Full Array, Body 1.555 x 2.135 mm, Pitch 0.5 mm; Interface: I2C; Mounting Technology: Surface Mount; ComponentLink1Description: Manufacturer URL; ComponentLink1URL: http://www.maximintegrated.com/; ComponentLink2Description: Datasheet; ComponentLink2URL: http://datasheets.maximintegrated.com/en/ds/MAX11800-MAX11803.pdf; ComponentLink3Description: Package Specification; ComponentLink3URL: http://pdfserv.maximintegrated.com/package_dwgs/21-0009.PDF
footprint MAXM-W121A2+1 (BGA, 12-Balls, Body 2.135x1.555mm, Pitch 0.5mm)
pins: A1 A0 (in) "I2C Address Input Bit 0", A2 AUX (in) "Auxiliary Input", A3 Y+ (io) "Y+ Channel Input/Output", A4 X+ (io) "X+ Channel Input/Output", B1 SCL (in) "I2C Serial Data Clock Input", B2 A1 (in) "I2C Address Input Bit 1", B3 GND (power) "Ground", B4 VDD (power) "Power Supply. Bypass VDD to GND with a 1uF capacitor.", C1 SDA (io) "I2C Serial Data Bus Input/Output", C2 ~{TIRQ} (hiz) "Active-Low Touch Interrupt Output", C3 Y- (io) "Y- Channel Input/Output", C4 X- (io) "X- Channel Input/Output"

## MAX11801EWC+T
designator U?
4 Channels, Ultra-Small, Low-Power, 4-Wire Touch-Sensor Controller with I2C Interface, -40 to 85 degC, 12-Pin BGA (W121A2+1), Pb-Free, Tape and Reel; Generic Part Number: MAX11801; PartNumber: MAX11801EWC+T; Channels: 4; Controller Type: Resistive; EV Kit: Yes; DatasheetVersion: Rev. 3; PackageVersion: Rev. G, 02/2010; PackageReference: W121A2+1; PackageDescription: 12-Pin Wafer-Level Package, Full Array, Body 1.555 x 2.135 mm, Pitch 0.5 mm; Supplier 1: Digi-Key; Supplier Part Number 1: MAX11801EWC+TTR-ND; Supplier 2: Digi-Key; Supplier Part Number 2: MAX11801EWC+TCT-ND; Supplier 3: Digi-Key; Supplier Part Number 3: MAX11801EWC+TDKR-ND; Supplier 4: Farnell; Supplier Part Number 4: 2071893; Supplier 5: Newark; Supplier Part Number 5: 69R7361; Supplier 6: Mouser; Supplier Part Number 6: 700-MAX11801EWC+T; Interface: I2C; Packing: Tape and Reel; Mounting Technology: Surface Mount; ComponentLink1Description: Manufacturer URL; ComponentLink1URL: http://www.maximintegrated.com/; ComponentLink2Description: Datasheet; ComponentLink2URL: http://datasheets.maximintegrated.com/en/ds/MAX11800-MAX11803.pdf; ComponentLink3Description: Package Specification; ComponentLink3URL: http://pdfserv.maximintegrated.com/package_dwgs/21-0009.PDF
footprint MAXM-W121A2+1 (BGA, 12-Balls, Body 2.135x1.555mm, Pitch 0.5mm)
pins: A1 A0 (in) "I2C Address Input Bit 0", A2 AUX (in) "Auxiliary Input", A3 Y+ (io) "Y+ Channel Input/Output", A4 X+ (io) "X+ Channel Input/Output", B1 SCL (in) "I2C Serial Data Clock Input", B2 A1 (in) "I2C Address Input Bit 1", B3 GND (power) "Ground", B4 VDD (power) "Power Supply. Bypass VDD to GND with a 1uF capacitor.", C1 SDA (io) "I2C Serial Data Bus Input/Output", C2 ~{TIRQ} (hiz) "Active-Low Touch Interrupt Output", C3 Y- (io) "Y- Channel Input/Output", C4 X- (io) "X- Channel Input/Output"

## MAX11801GTC/V+
designator U?
4 Channels, Ultra-Small, Low-Power, 4-Wire Touch-Sensor Controller with I2C Interface, -40 to 105 degC, 12-Pin QFN (T1244+4), Pb-Free; Generic Part Number: MAX11801; PartNumber: MAX11801GTC/V+; Channels: 4; Controller Type: Resistive; EV Kit: Yes; DatasheetVersion: Rev. 3; PackageVersion: Rev. L, 04/2012; PackageReference: T1244+4; PackageDescription: 12-Pin Thin Quad Flatpack, No Leads, Body 4 x 4 mm, Pitch 0.8 mm; Supplier 1: Digi-Key; Supplier Part Number 1: MAX11801GTC/V+-ND; Supplier 2: Mouser; Supplier Part Number 2: 700-MAX11801GTC/V+; Interface: I2C; Mounting Technology: Surface Mount; Code_JEDEC: MO-220; ComponentLink1Description: Manufacturer URL; ComponentLink1URL: http://www.maximintegrated.com/; ComponentLink2Description: Datasheet; ComponentLink2URL: http://datasheets.maximintegrated.com/en/ds/MAX11800-MAX11803.pdf; ComponentLink3Description: Package Specification; ComponentLink3URL: http://pdfserv.maximintegrated.com/package_dwgs/21-0139.PDF
footprint MAXM-T1244+4_N (QFN, 12-Leads, Body 4x4mm, Pitch 0.8mm, Thermal Pad 2.1x2.1mm, IPC Medium Density)
footprint MAXM-T1244+4_L (QFN, 12-Leads, Body 4x4mm, Pitch 0.8mm, Thermal Pad 2.1x2.1mm, IPC High Density)
footprint MAXM-T1244+4_M (QFN, 12-Leads, Body 4x4mm, Pitch 0.8mm, Thermal Pad 2.1x2.1mm, IPC Low Density)
pins: 1 X+ (io) "X+ Channel Input/Output", 2 VDD (power) "Power Supply. Bypass VDD to GND with a 1uF capacitor.", 3 GND (power) "Ground", 4 X- (io) "X- Channel Input/Output", 5 Y- (io) "Y- Channel Input/Output", 6 ~{TIRQ} (hiz) "Active-Low Touch Interrupt Output", 7 SDA (io) "I2C Serial Data Bus Input/Output", 8 SCL (in) "I2C Serial Data Clock Input", 9 A0 (in) "I2C Address Input Bit 0", 10 A1 (in) "I2C Address Input Bit 1", 11 AUX (in) "Auxiliary Input", 12 Y+ (io) "Y+ Channel Input/Output", 13 EP (power) "Exposed Pad (TQFN only). Connected to ground."

## MAX11801GTC/V+T
designator U?
4 Channels, Ultra-Small, Low-Power, 4-Wire Touch-Sensor Controller with I2C Interface, -40 to 105 degC, 12-Pin QFN (T1244+4), Pb-Free, Tape and Reel; Generic Part Number: MAX11801; PartNumber: MAX11801GTC/V+T; Channels: 4; Controller Type: Resistive; EV Kit: Yes; DatasheetVersion: Rev. 3; PackageVersion: Rev. L, 04/2012; PackageReference: T1244+4; PackageDescription: 12-Pin Thin Quad Flatpack, No Leads, Body 4 x 4 mm, Pitch 0.8 mm; Supplier 1: Digi-Key; Supplier Part Number 1: MAX11801GTC/V+T-ND; Supplier 2: Mouser; Supplier Part Number 2: 700-MAX11801GTC/V+T; Interface: I2C; Packing: Tape and Reel; Mounting Technology: Surface Mount; Code_JEDEC: MO-220; ComponentLink1Description: Manufacturer URL; ComponentLink1URL: http://www.maximintegrated.com/; ComponentLink2Description: Datasheet; ComponentLink2URL: http://datasheets.maximintegrated.com/en/ds/MAX11800-MAX11803.pdf; ComponentLink3Description: Package Specification; ComponentLink3URL: http://pdfserv.maximintegrated.com/package_dwgs/21-0139.PDF
footprint MAXM-T1244+4_N (QFN, 12-Leads, Body 4x4mm, Pitch 0.8mm, Thermal Pad 2.1x2.1mm, IPC Medium Density)
footprint MAXM-T1244+4_L (QFN, 12-Leads, Body 4x4mm, Pitch 0.8mm, Thermal Pad 2.1x2.1mm, IPC High Density)
footprint MAXM-T1244+4_M (QFN, 12-Leads, Body 4x4mm, Pitch 0.8mm, Thermal Pad 2.1x2.1mm, IPC Low Density)
pins: 1 X+ (io) "X+ Channel Input/Output", 2 VDD (power) "Power Supply. Bypass VDD to GND with a 1uF capacitor.", 3 GND (power) "Ground", 4 X- (io) "X- Channel Input/Output", 5 Y- (io) "Y- Channel Input/Output", 6 ~{TIRQ} (hiz) "Active-Low Touch Interrupt Output", 7 SDA (io) "I2C Serial Data Bus Input/Output", 8 SCL (in) "I2C Serial Data Clock Input", 9 A0 (in) "I2C Address Input Bit 0", 10 A1 (in) "I2C Address Input Bit 1", 11 AUX (in) "Auxiliary Input", 12 Y+ (io) "Y+ Channel Input/Output", 13 EP (power) "Exposed Pad (TQFN only). Connected to ground."

## MAX11802ETC+
designator U?
4 Channels, Low-Power, Ultra Small Resistive Touch-Screen Controller with SPI Interface, -40 to 85 degC, 12-Pin QFN (T1244+4), Pb-Free; Generic Part Number: MAX11802; PartNumber: MAX11802ETC+; Channels: 4; EV Kit: Yes; DatasheetVersion: Rev. 3; PackageVersion: Rev. L, 04/2012; PackageReference: T1244+4; PackageDescription: 12-Pin Thin Quad Flatpack, No Leads, Body 4 x 4 mm, Pitch 0.8 mm; Supplier 1: Digi-Key; Supplier Part Number 1: MAX11802ETC+-ND; Supplier 2: Farnell; Supplier Part Number 2: 2071378; Supplier 3: Newark; Supplier Part Number 3: 27R0848; Supplier 4: Mouser; Supplier Part Number 4: 700-MAX11802ETC+; Controller Type: Resistive; Interface: SPI; Mounting Technology: Surface Mount; Code_JEDEC: MO-220; ComponentLink1Description: Manufacturer URL; ComponentLink1URL: http://www.maximintegrated.com/; ComponentLink2Description: Datasheet; ComponentLink2URL: http://datasheets.maximintegrated.com/en/ds/MAX11800-MAX11803.pdf; ComponentLink3Description: Package Specification; ComponentLink3URL: http://pdfserv.maximintegrated.com/package_dwgs/21-0139.PDF
footprint MAXM-T1244+4_N (QFN, 12-Leads, Body 4x4mm, Pitch 0.8mm, Thermal Pad 2.1x2.1mm, IPC Medium Density)
footprint MAXM-T1244+4_L (QFN, 12-Leads, Body 4x4mm, Pitch 0.8mm, Thermal Pad 2.1x2.1mm, IPC High Density)
footprint MAXM-T1244+4_M (QFN, 12-Leads, Body 4x4mm, Pitch 0.8mm, Thermal Pad 2.1x2.1mm, IPC Low Density)
pins: 1 X+ (io) "X+ Channel Input/Output", 2 VDD (power) "Power Supply. Bypass VDD to GND with a 1uF capacitor.", 3 GND (power) "Ground", 4 X- (io) "X- Channel Input/Output", 5 Y- (io) "Y- Channel Input/Output", 6 ~{TIRQ} (hiz) "Active-Low Touch Interrupt Output", 7 DIN (in) "SPI Serial Data Input", 8 CLK (in) "SPI Serial Data Clock Input", 9 ~{CS} (in) "SPI Chip-Select Input", 10 DOUT (hiz) "SPI Data Output", 11 AUX (in) "Auxiliary Input", 12 Y+ (io) "Y+ Channel Input/Output", 13 EP (power) "Exposed Pad (TQFN only). Connected to ground."

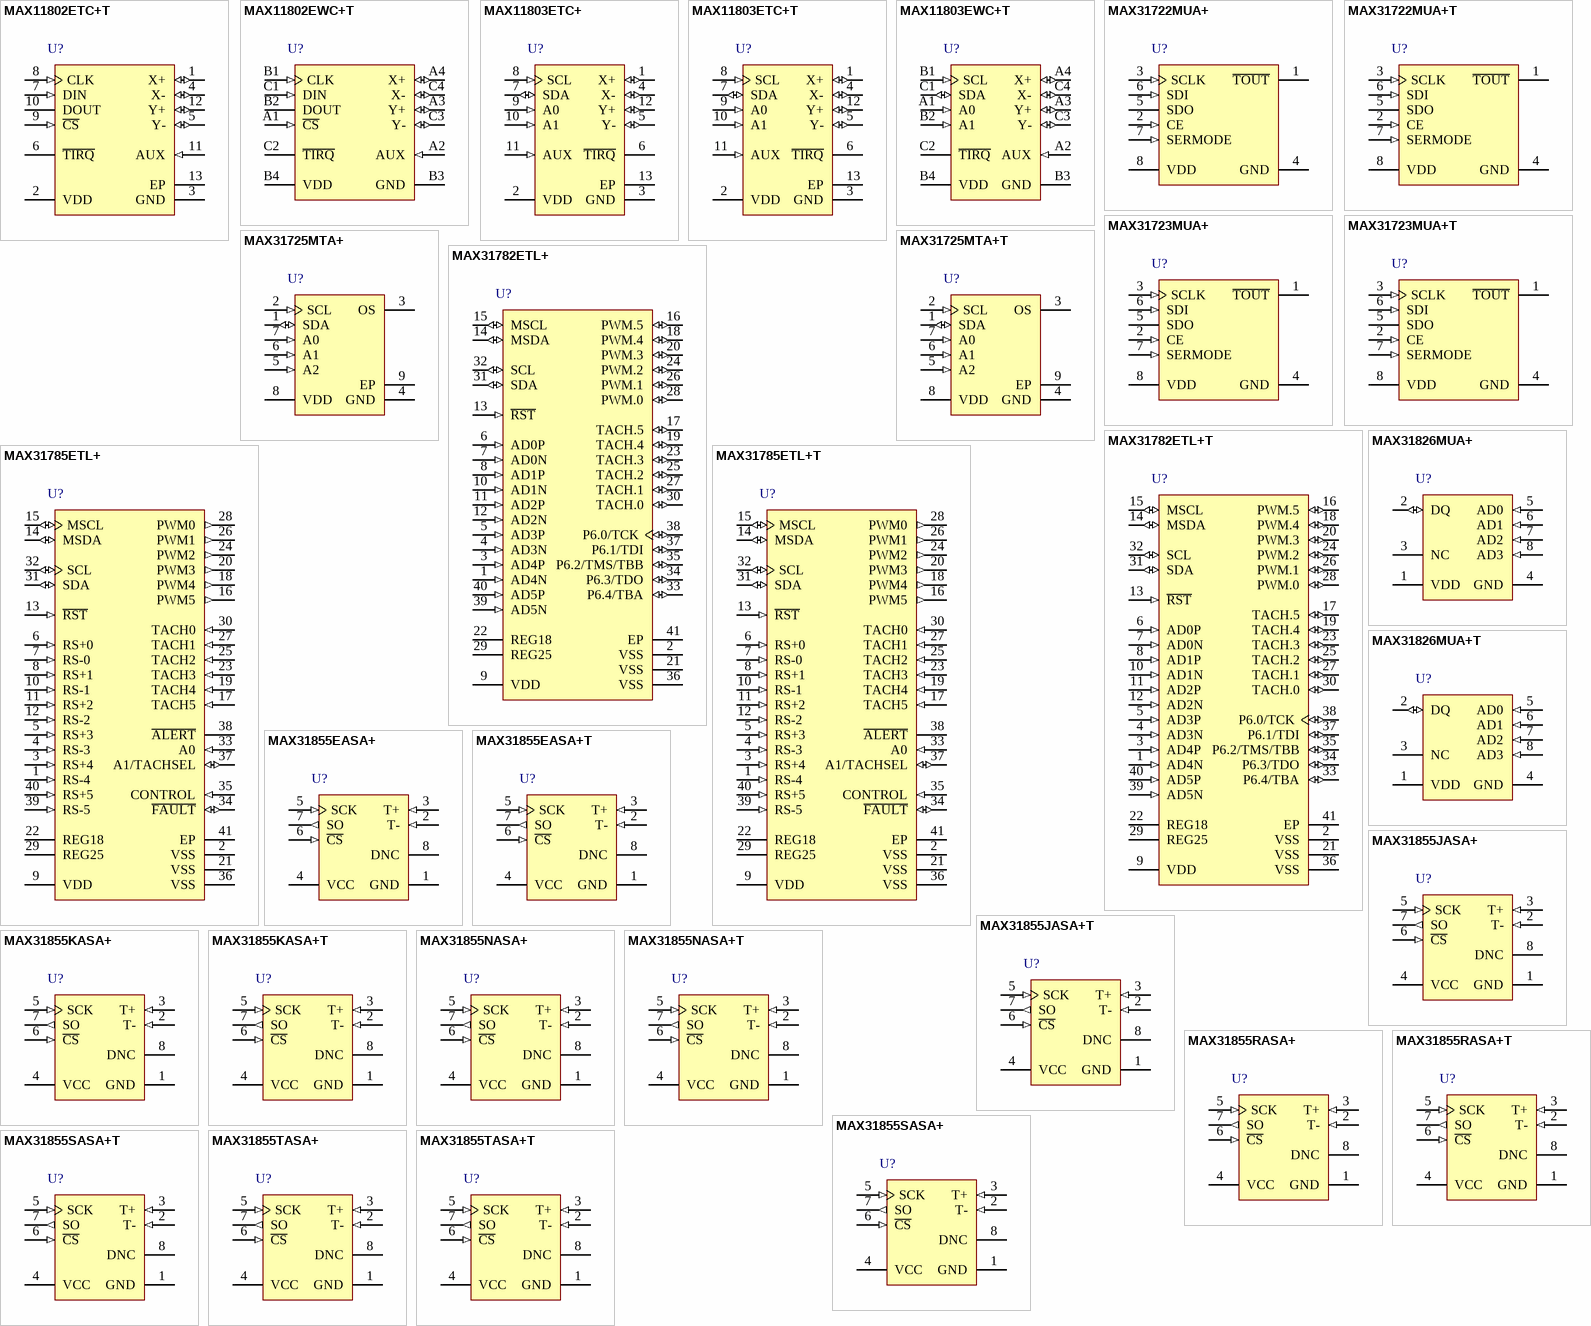
[diagram p31: symbols MAX11802ETC+T to MAX31855TASA+T]

## MAX11802ETC+T
designator U?
4 Channels, Low-Power, Ultra Small Resistive Touch-Screen Controller with SPI Interface, -40 to 85 degC, 12-Pin QFN (T1244+4), Pb-Free, Tape and Reel; Generic Part Number: MAX11802; PartNumber: MAX11802ETC+T; Channels: 4; EV Kit: Yes; DatasheetVersion: Rev. 3; PackageVersion: Rev. L, 04/2012; PackageReference: T1244+4; PackageDescription: 12-Pin Thin Quad Flatpack, No Leads, Body 4 x 4 mm, Pitch 0.8 mm; Supplier 1: Digi-Key; Supplier Part Number 1: MAX11802ETC+T-ND; Supplier 2: Mouser; Supplier Part Number 2: 700-MAX11802ETC+T; Controller Type: Resistive; Interface: SPI; Packing: Tape and Reel; Mounting Technology: Surface Mount; Code_JEDEC: MO-220; ComponentLink1Description: Manufacturer URL; ComponentLink1URL: http://www.maximintegrated.com/; ComponentLink2Description: Datasheet; ComponentLink2URL: http://datasheets.maximintegrated.com/en/ds/MAX11800-MAX11803.pdf; ComponentLink3Description: Package Specification; ComponentLink3URL: http://pdfserv.maximintegrated.com/package_dwgs/21-0139.PDF
footprint MAXM-T1244+4_N (QFN, 12-Leads, Body 4x4mm, Pitch 0.8mm, Thermal Pad 2.1x2.1mm, IPC Medium Density)
footprint MAXM-T1244+4_L (QFN, 12-Leads, Body 4x4mm, Pitch 0.8mm, Thermal Pad 2.1x2.1mm, IPC High Density)
footprint MAXM-T1244+4_M (QFN, 12-Leads, Body 4x4mm, Pitch 0.8mm, Thermal Pad 2.1x2.1mm, IPC Low Density)
pins: 1 X+ (io) "X+ Channel Input/Output", 2 VDD (power) "Power Supply. Bypass VDD to GND with a 1uF capacitor.", 3 GND (power) "Ground", 4 X- (io) "X- Channel Input/Output", 5 Y- (io) "Y- Channel Input/Output", 6 ~{TIRQ} (hiz) "Active-Low Touch Interrupt Output", 7 DIN (in) "SPI Serial Data Input", 8 CLK (in) "SPI Serial Data Clock Input", 9 ~{CS} (in) "SPI Chip-Select Input", 10 DOUT (hiz) "SPI Data Output", 11 AUX (in) "Auxiliary Input", 12 Y+ (io) "Y+ Channel Input/Output", 13 EP (power) "Exposed Pad (TQFN only). Connected to ground."

## MAX11802EWC+T
designator U?
4 Channels, Low-Power, Ultra Small Resistive Touch-Screen Controller with SPI Interface, -40 to 85 degC, 12-Pin BGA (W121A2+1), Pb-Free, Tape and Reel; Generic Part Number: MAX11802; PartNumber: MAX11802EWC+T; Channels: 4; EV Kit: Yes; DatasheetVersion: Rev. 3; PackageVersion: Rev. G, 02/2010; PackageReference: W121A2+1; PackageDescription: 12-Pin Wafer-Level Package, Full Array, Body 1.555 x 2.135 mm, Pitch 0.5 mm; Supplier 1: Digi-Key; Supplier Part Number 1: MAX11802EWC+TTR-ND; Supplier 2: Digi-Key; Supplier Part Number 2: MAX11802EWC+TCT-ND; Supplier 3: Digi-Key; Supplier Part Number 3: MAX11802EWC+TDKR-ND; Supplier 4: Newark; Supplier Part Number 4: 69R7362; Supplier 5: Mouser; Supplier Part Number 5: 700-MAX11802EWC+T; Controller Type: Resistive; Interface: SPI; Packing: Tape and Reel; Mounting Technology: Surface Mount; ComponentLink1Description: Manufacturer URL; ComponentLink1URL: http://www.maximintegrated.com/; ComponentLink2Description: Datasheet; ComponentLink2URL: http://datasheets.maximintegrated.com/en/ds/MAX11800-MAX11803.pdf; ComponentLink3Description: Package Specification; ComponentLink3URL: http://pdfserv.maximintegrated.com/package_dwgs/21-0009.PDF
footprint MAXM-W121A2+1 (BGA, 12-Balls, Body 2.135x1.555mm, Pitch 0.5mm)
pins: A1 ~{CS} (in) "SPI Chip-Select Input", A2 AUX (in) "Auxiliary Input", A3 Y+ (io) "Y+ Channel Input/Output", A4 X+ (io) "X+ Channel Input/Output", B1 CLK (in) "SPI Serial Data Clock Input", B2 DOUT (hiz) "SPI Data Output", B3 GND (power) "Ground", B4 VDD (power) "Power Supply. Bypass VDD to GND with a 1uF capacitor.", C1 DIN (in) "SPI Serial Data Input", C2 ~{TIRQ} (hiz) "Active-Low Touch Interrupt Output", C3 Y- (io) "Y- Channel Input/Output", C4 X- (io) "X- Channel Input/Output"

## MAX11803ETC+
designator U?
4 Channels, Low-Power, Ultra Small Resistive Touch-Screen Controller with SPI Interface, -40 to 85 degC, 12-Pin QFN (T1244+4), Pb-Free; Generic Part Number: MAX11803; PartNumber: MAX11803ETC+; Channels: 4; EV Kit: Yes; Interface: I2C; DatasheetVersion: Rev. 3; PackageVersion: Rev. L, 04/2012; PackageReference: T1244+4; PackageDescription: 12-Pin Thin Quad Flatpack, No Leads, Body 4 x 4 mm, Pitch 0.8 mm; Supplier 1: Digi-Key; Supplier Part Number 1: MAX11803ETC+-ND; Supplier 2: Farnell; Supplier Part Number 2: 2071379; Supplier 3: Newark; Supplier Part Number 3: 27R0851; Supplier 4: Mouser; Supplier Part Number 4: 700-MAX11803ETC+; Controller Type: Resistive; Mounting Technology: Surface Mount; Code_JEDEC: MO-220; ComponentLink1Description: Manufacturer URL; ComponentLink1URL: http://www.maximintegrated.com/; ComponentLink2Description: Datasheet; ComponentLink2URL: http://datasheets.maximintegrated.com/en/ds/MAX11800-MAX11803.pdf; ComponentLink3Description: Package Specification; ComponentLink3URL: http://pdfserv.maximintegrated.com/package_dwgs/21-0139.PDF
footprint MAXM-T1244+4_N (QFN, 12-Leads, Body 4x4mm, Pitch 0.8mm, Thermal Pad 2.1x2.1mm, IPC Medium Density)
footprint MAXM-T1244+4_L (QFN, 12-Leads, Body 4x4mm, Pitch 0.8mm, Thermal Pad 2.1x2.1mm, IPC High Density)
footprint MAXM-T1244+4_M (QFN, 12-Leads, Body 4x4mm, Pitch 0.8mm, Thermal Pad 2.1x2.1mm, IPC Low Density)
pins: 1 X+ (io) "X+ Channel Input/Output", 2 VDD (power) "Power Supply. Bypass VDD to GND with a 1uF capacitor.", 3 GND (power) "Ground", 4 X- (io) "X- Channel Input/Output", 5 Y- (io) "Y- Channel Input/Output", 6 ~{TIRQ} (hiz) "Active-Low Touch Interrupt Output", 7 SDA (io) "I2C Serial Data Bus Input/Output", 8 SCL (in) "I2C Serial Data Clock Input", 9 A0 (in) "I2C Address Input Bit 0", 10 A1 (in) "I2C Address Input Bit 1", 11 AUX (in) "Auxiliary Input", 12 Y+ (io) "Y+ Channel Input/Output", 13 EP (power) "Exposed Pad (TQFN only). Connected to ground."

## MAX11803ETC+T
designator U?
4 Channels, Low-Power, Ultra Small Resistive Touch-Screen Controller with SPI Interface, -40 to 85 degC, 12-Pin QFN (T1244+4), Pb-Free, Tape and Reel; Generic Part Number: MAX11803; PartNumber: MAX11803ETC+T; Channels: 4; EV Kit: Yes; Interface: I2C; DatasheetVersion: Rev. 3; PackageVersion: Rev. L, 04/2012; PackageReference: T1244+4; PackageDescription: 12-Pin Thin Quad Flatpack, No Leads, Body 4 x 4 mm, Pitch 0.8 mm; Supplier 1: Digi-Key; Supplier Part Number 1: MAX11803ETC+T-ND; Supplier 2: Mouser; Supplier Part Number 2: 700-MAX11803ETC+T; Controller Type: Resistive; Packing: Tape and Reel; Mounting Technology: Surface Mount; Code_JEDEC: MO-220; ComponentLink1Description: Manufacturer URL; ComponentLink1URL: http://www.maximintegrated.com/; ComponentLink2Description: Datasheet; ComponentLink2URL: http://datasheets.maximintegrated.com/en/ds/MAX11800-MAX11803.pdf; ComponentLink3Description: Package Specification; ComponentLink3URL: http://pdfserv.maximintegrated.com/package_dwgs/21-0139.PDF
footprint MAXM-T1244+4_N (QFN, 12-Leads, Body 4x4mm, Pitch 0.8mm, Thermal Pad 2.1x2.1mm, IPC Medium Density)
footprint MAXM-T1244+4_L (QFN, 12-Leads, Body 4x4mm, Pitch 0.8mm, Thermal Pad 2.1x2.1mm, IPC High Density)
footprint MAXM-T1244+4_M (QFN, 12-Leads, Body 4x4mm, Pitch 0.8mm, Thermal Pad 2.1x2.1mm, IPC Low Density)
pins: 1 X+ (io) "X+ Channel Input/Output", 2 VDD (power) "Power Supply. Bypass VDD to GND with a 1uF capacitor.", 3 GND (power) "Ground", 4 X- (io) "X- Channel Input/Output", 5 Y- (io) "Y- Channel Input/Output", 6 ~{TIRQ} (hiz) "Active-Low Touch Interrupt Output", 7 SDA (io) "I2C Serial Data Bus Input/Output", 8 SCL (in) "I2C Serial Data Clock Input", 9 A0 (in) "I2C Address Input Bit 0", 10 A1 (in) "I2C Address Input Bit 1", 11 AUX (in) "Auxiliary Input", 12 Y+ (io) "Y+ Channel Input/Output", 13 EP (power) "Exposed Pad (TQFN only). Connected to ground."